# Altium integrated library Altium_Inductor.IntLib: 46 symbols (part 2 of 2)
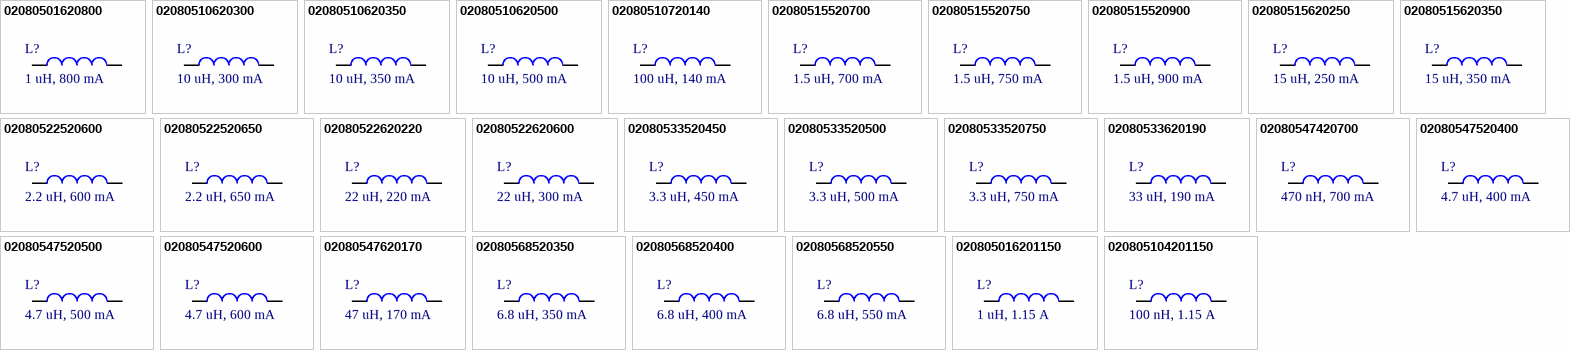
[diagram p2: symbols 02080501620800 to 020805104201150]

## 02080568520400
designator L?, comment 6.8 uH, 400 mA
Inductor SMD, size 0805, 6.8 uH, 400 mA; Manufacturer: TDK; Manufacturer Part Number: MLZ2012M6R8WTD25; Inductance: 6.8 uH; Tolerance: 20%; Maximum DC Current: 400 mA; Maximum DC Resistance: 400 mOhms; Saturation Current: 160 mA; Packaging: Tape and Reel; Supplier 1 URL: https://www.mouser.vn/ProductDetail/TDK/MLZ2012M6R8WTD25?qs=u4%252BEJ9urDATUrpah%252Btk67w%3D%3D; Supplier 2 URL: https://www.digikey.com/en/products/detail/tdk-corporation/MLZ2012M6R8WTD25/4743189; Supplier 3 URL: N/A; ComponentLink1Description: Datasheet; ComponentLink1URL: https://product.tdk.com/system/files/dam/doc/product/inductor/inductor/smd/catalog/inductor_automotive_decoupling_mlz2012_en.pdf?ref_disty=mouser; Value: 6.8 uH, 400 mA; Mount: SMD/SMT; Operating Temperature Max: + 125 C; Operating Temperature Min: - 55 C; Package / Case: 0805; Supplier 1: Mouser; Supplier 1 Part Number: 810-MLZ2012M6R8WTD25; Supplier 2: Digi-Key; Supplier 2 Part Number: 445-17082-2-ND; Supplier 3: thegioiic; Supplier 3 Part Number: OEM; LCSC Part #: N/A
footprint 0805 (Chip Inductor, 2-Leads, Body 2.05x1.30mm, IPC Medium Density)
pins: 1, 2

## 02080568520550
designator L?, comment 6.8 uH, 550 mA
Inductor SMD, size 0805, 6.8 uH, 550 mA; Manufacturer: TDK; Manufacturer Part Number: MLZ2012N6R8LTD25; Inductance: 6.8 uH; Tolerance: 20%; Maximum DC Current: 550 mA; Maximum DC Resistance: 250 mOhms; Saturation Current: 110 mA; Packaging: Tape and Reel; Supplier 1 URL: https://www.mouser.vn/ProductDetail/TDK/MLZ2012N6R8LTD25?qs=u4%252BEJ9urDAQdlO5mszI1EQ%3D%3D; Supplier 2 URL: https://www.digikey.com/en/products/detail/tdk-corporation/MLZ2012N6R8LTD25/4743200; Supplier 3 URL: N/A; ComponentLink1Description: Datasheet; ComponentLink1URL: https://product.tdk.com/system/files/dam/doc/product/inductor/inductor/smd/catalog/inductor_automotive_decoupling_mlz2012_en.pdf?ref_disty=mouser; Value: 6.8 uH, 550 mA; Mount: SMD/SMT; Operating Temperature Max: + 125 C; Operating Temperature Min: - 55 C; Package / Case: 0805; Supplier 1: Mouser; Supplier 1 Part Number: 810-MLZ2012N6R8LTD25; Supplier 2: Digi-Key; Supplier 2 Part Number: 445-16384-2-ND; Supplier 3: thegioiic; Supplier 3 Part Number: OEM; LCSC Part #: N/A
footprint 0805 (Chip Inductor, 2-Leads, Body 2.05x1.30mm, IPC Medium Density)
pins: 1, 2

## 020805016201150
designator L?, comment 1 uH, 1.15 A
Inductor SMD, size 0805, 1 uH, 1.15 A; Manufacturer: TDK; Manufacturer Part Number: MLZ2012N1R0LTD25; Inductance: 1 uH; Tolerance: 20%; Maximum DC Current: 1.15 A; Maximum DC Resistance: 60 mOhms; Saturation Current: 220 mA; Packaging: Tape and Reel; Supplier 1 URL: https://www.mouser.vn/ProductDetail/TDK/MLZ2012N1R0LTD25?qs=u4%252BEJ9urDATo3oIAAwLY%252BQ%3D%3D; Supplier 2 URL: https://www.digikey.com/en/products/detail/tdk-corporation/MLZ2012N1R0LTD25/4743195; Supplier 3 URL: N/A; ComponentLink1Description: Datasheet; ComponentLink1URL: https://product.tdk.com/system/files/dam/doc/product/inductor/inductor/smd/catalog/inductor_automotive_decoupling_mlz2012_en.pdf?ref_disty=mouser; Value: 1 uH, 1.15 A; Mount: SMD/SMT; Operating Temperature Max: + 125 C; Operating Temperature Min: - 55 C; Package / Case: 0805; Supplier 1: Mouser; Supplier 1 Part Number: 810-MLZ2012N1R0LTD25; Supplier 2: Digi-Key; Supplier 2 Part Number: 445-16378-2-ND; Supplier 3: thegioiic; Supplier 3 Part Number: OEM; LCSC Part #: N/A
footprint 0805 (Chip Inductor, 2-Leads, Body 2.05x1.30mm, IPC Medium Density)
pins: 1, 2

## 020805104201150
designator L?, comment 100 nH, 1.15 A
Inductor SMD, size 0805, 100 nH, 1.15 A; Manufacturer: TDK; Manufacturer Part Number: MLZ2012DR10DTD25; Inductance: 100 nH; Tolerance: 20%; Maximum DC Current: 1.15 A; Maximum DC Resistance: 70 mOhms; Saturation Current: 1 A; Packaging: Tape and Reel; Supplier 1 URL: https://www.mouser.vn/ProductDetail/TDK/MLZ2012DR10DTD25?qs=u4%252BEJ9urDASL0ZjuDlQmDQ%3D%3D; Supplier 2 URL: https://www.digikey.com/en/products/detail/tdk-corporation/MLZ2012DR10DTD25/4743181; Supplier 3 URL: N/A; ComponentLink1Description: Datasheet; ComponentLink1URL: https://product.tdk.com/system/files/dam/doc/product/inductor/inductor/smd/catalog/inductor_automotive_decoupling_mlz2012_en.pdf?ref_disty=mouser; Value: 100 nH, 1.15 A; Mount: SMD/SMT; Operating Temperature Max: + 125 C; Operating Temperature Min: - 55 C; Package / Case: 0805; Supplier 1: Mouser; Supplier 1 Part Number: 810-MLZ2012DR10DTD25; Supplier 2: Digi-Key; Supplier 2 Part Number: 445-MLZ2012DR10DTD25TR-ND; Supplier 3: thegioiic; Supplier 3 Part Number: OEM; LCSC Part #: N/A
footprint 0805 (Chip Inductor, 2-Leads, Body 2.05x1.30mm, IPC Medium Density)
pins: 1, 2